# Altium schematic symbol library CL10B104KB8NNNC.SchLib: 1 symbol
Pins are listed as number, name and electrical type; pins without a type are passive.

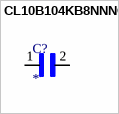
[diagram p0: symbol CL10B104KB8NNNC]

## CL10B104KB8NNNC
designator C?
MF: {'manufacturer': u'Samsung Electro-Mechanics'}; MP: CL10B104KB8NNNC; Availability: Unavailable; Price: None; Value: *; Package: None
footprint CAPC1608X90N
pins: 1, 2